# Altium footprint library C_ALU_SMD.PcbLib: 7 footprints
Each footprint in its own frame and in the unit in brackets; x right, y up, seen from the top. Pads: shape width x height; smd on the part's side, far side on the other; paste and mask are expansions set on the pad; w line width, h text height; cw(c..) or ccw(c..) is an arc to the next point about the centre after c.
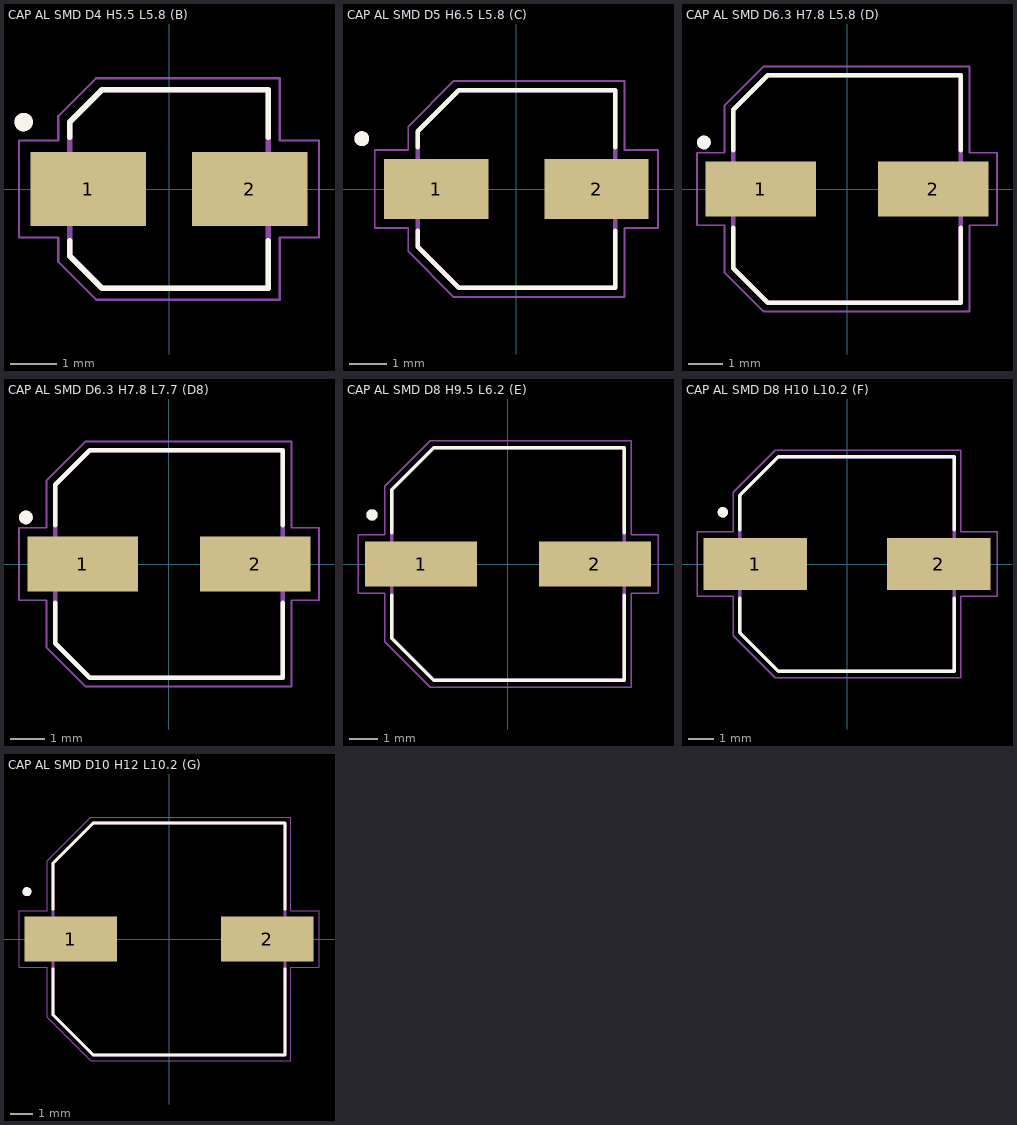
[diagram p0: the footprints below, top view; thin cyan lines are the x and y axes]

## CAP AL SMD D4 H5.5 L5.8 (B) [mm]
pads (2):
  rect 2.5x1.6 smd: 1(-1.75,0) 2(1.75,0)
Top Overlay:
  circle w0.2: c-3.15,1.45 r0.1
  lines w0.127: -2.15,-1.12 -2.15,-1.45 -1.45,-2.15 2.15,-2.15 2.15,-1.12 ; -2.15,1.12 -2.15,1.45 -1.45,2.15 2.15,2.15 2.15,1.12
Mechanical 13:
  circle w0.2: c-3.15,1.45 r0.1
  lines w0.127: -2.15,-1.45 -1.45,-2.15 2.15,-2.15 2.15,2.15 -1.45,2.15 -2.15,1.45 -2.15,-1.45
Mechanical 15:
  lines w0.05: -3.25,-1.05 -3.25,1.05 -2.4,1.05 -2.4,1.575 -1.575,2.4 2.4,2.4 2.4,1.05 3.25,1.05 3.25,-1.05 2.4,-1.05 2.4,-2.4 -1.575,-2.4 -2.4,-1.575 -2.4,-1.05 -3.25,-1.05
3D body "step_temp.STEP": height 5.4, standoff 0, extent -2.5,-2.15 2.5,2.15

## CAP AL SMD D5 H6.5 L5.8 (C) [mm]
pads (2):
  rect 2.8x1.6 smd: 1(-2.15,0) 2(2.15,0)
Top Overlay:
  circle w0.2: c-4.15,1.35 r0.1
  lines w0.127: -2.65,-1.12 -2.65,-1.55 -1.55,-2.65 2.65,-2.65 2.65,-1.12 ; -2.65,1.12 -2.65,1.55 -1.55,2.65 2.65,2.65 2.65,1.12
Mechanical 13:
  circle w0.2: c-4.15,1.35 r0.1
  lines w0.127: -2.65,-1.55 -2.65,1.55 -1.55,2.65 2.65,2.65 2.65,-2.65 -1.55,-2.65 -2.65,-1.55
Mechanical 15:
  lines w0.05: -3.8,-1.05 -2.9,-1.05 -2.9,-1.675 -1.675,-2.9 2.9,-2.9 2.9,-1.05 3.8,-1.05 3.8,1.05 2.9,1.05 2.9,2.9 -1.675,2.9 -2.9,1.675 -2.9,1.05 -3.8,1.05 -3.8,-1.05
3D body "step_temp.STEP": height 5.8, standoff 0, extent -3,-2.65 3,2.65

## CAP AL SMD D6.3 H7.8 L5.8 (D) [mm]
pads (2):
  rect 3.2x1.6 smd: 1(-2.5,0) 2(2.5,0)
Top Overlay:
  circle w0.2: c-4.15,1.35 r0.1
  lines w0.127: -3.3,-1.12 -3.3,-2.3 -2.3,-3.3 3.3,-3.3 3.3,-1.12 ; -3.3,1.12 -3.3,2.3 -2.3,3.3 3.3,3.3 3.3,1.12
Mechanical 13:
  circle w0.2: c-4.15,1.35 r0.1
  lines w0.127: -3.3,-2.3 -3.3,2.3 -2.3,3.3 3.3,3.3 3.3,-3.3 -2.3,-3.3 -3.3,-2.3
Mechanical 15:
  lines w0.05: -4.35,-1.05 -3.55,-1.05 -3.55,-2.425 -2.425,-3.55 3.55,-3.55 3.55,-1.05 4.35,-1.05 4.35,1.05 3.55,1.05 3.55,3.55 -2.425,3.55 -3.55,2.425 -3.55,1.05 -4.35,1.05 -4.35,-1.05
3D body "step_temp.STEP": height 5.8, standoff 0, extent -3.65,-3.3 3.65,3.3

## CAP AL SMD D6.3 H7.8 L7.7 (D8) [mm]
pads (2):
  rect 3.2x1.6 smd: 1(-2.5,0) 2(2.5,0)
Top Overlay:
  circle w0.2: c-4.15,1.35 r0.1
  lines w0.127: -3.3,-1.12 -3.3,-2.3 -2.3,-3.3 3.3,-3.3 3.3,-1.12 ; -3.3,1.12 -3.3,2.3 -2.3,3.3 3.3,3.3 3.3,1.12
Mechanical 13:
  circle w0.2: c-4.15,1.35 r0.1
  lines w0.127: -3.3,-2.3 -2.3,-3.3 3.3,-3.3 3.3,3.3 -2.3,3.3 -3.3,2.3 -3.3,-2.3
Mechanical 15:
  lines w0.05: -4.35,-1.05 -4.35,1.05 -3.55,1.05 -3.55,2.425 -2.425,3.55 3.55,3.55 3.55,1.05 4.35,1.05 4.35,-1.05 3.55,-1.05 3.55,-3.55 -2.425,-3.55 -3.55,-2.425 -3.55,-1.05 -4.35,-1.05
3D body "step_temp.STEP": height 7.7, standoff 0, extent -3.65,-3.3 3.65,3.3

## CAP AL SMD D8 H9.5 L6.2 (E) [mm]
pads (2):
  rect 4x1.6 smd: 1(-3.1,0) 2(3.1,0)
Top Overlay:
  circle w0.2: c-4.85,1.75 r0.1
  lines w0.127: -4.15,-1.12 -4.15,-2.65 -2.65,-4.15 4.15,-4.15 4.15,-1.12 ; -4.15,1.12 -4.15,2.65 -2.65,4.15 4.15,4.15 4.15,1.12
Mechanical 13:
  circle w0.2: c-4.85,1.75 r0.1
  lines w0.127: -4.15,-2.65 -2.65,-4.15 4.15,-4.15 4.15,4.15 -2.65,4.15 -4.15,2.65 -4.15,-2.65
Mechanical 15:
  lines w0.05: -5.35,-1.05 -5.35,1.05 -4.4,1.05 -4.4,2.775 -2.775,4.4 4.4,4.4 4.4,1.05 5.35,1.05 5.35,-1.05 4.4,-1.05 4.4,-4.4 -2.775,-4.4 -4.4,-2.775 -4.4,-1.05 -5.35,-1.05
3D body "step_temp.STEP": height 6.2, standoff 0, extent -4.5,-4.15 4.5,4.15

## CAP AL SMD D8 H10 L10.2 (F) [mm]
pads (2):
  rect 4x2 smd: 1(-3.55,0) 2(3.55,0)
Top Overlay:
  circle w0.2: c-4.8,2 r0.1
  lines w0.127: -4.15,-1.32 -4.15,-2.65 -2.65,-4.15 4.15,-4.15 4.15,-1.32 ; -4.15,1.32 -4.15,2.65 -2.65,4.15 4.15,4.15 4.15,1.32
Mechanical 13:
  circle w0.2: c-4.8,2 r0.1
  lines w0.127: -4.15,-2.65 -2.65,-4.15 4.15,-4.15 4.15,4.15 -2.65,4.15 -4.15,2.65 -4.15,-2.65
Mechanical 15:
  lines w0.05: -5.8,-1.25 -5.8,1.25 -4.4,1.25 -4.4,2.775 -2.775,4.4 4.4,4.4 4.4,1.25 5.8,1.25 5.8,-1.25 4.4,-1.25 4.4,-4.4 -2.775,-4.4 -4.4,-2.775 -4.4,-1.25 -5.8,-1.25
3D body "step_temp.STEP": height 10.2, standoff 0, extent -4.85,-4.15 4.85,4.15

## CAP AL SMD D10 H12 L10.2 (G) [mm]
pads (2):
  rect 4.1x2 smd: 1(-4.35,0) 2(4.35,0)
Top Overlay:
  circle w0.2: c-6.3,2.1 r0.1
  lines w0.127: -5.15,-1.32 -5.15,-3.35 -3.35,-5.15 5.15,-5.15 5.15,-1.32 ; -5.15,1.32 -5.15,3.35 -3.35,5.15 5.15,5.15 5.15,1.32
Mechanical 13:
  circle w0.2: c-6.3,2.1 r0.1
  lines w0.127: -5.15,-3.35 -3.35,-5.15 5.15,-5.15 5.15,5.15 -3.35,5.15 -5.15,3.35 -5.15,-3.35
Mechanical 15:
  lines w0.05: -6.65,-1.25 -6.65,1.25 -5.4,1.25 -5.4,3.475 -3.475,5.4 5.4,5.4 5.4,1.25 6.65,1.25 6.65,-1.25 5.4,-1.25 5.4,-5.4 -3.475,-5.4 -5.4,-3.475 -5.4,-1.25 -6.65,-1.25
3D body "step_temp.STEP": height 9.3, standoff -0.9, extent -5.85,-5.15 5.85,5.15